# Altium footprint library MSD12A.PcbLib: 1 footprints
Each footprint in its own frame and in the unit in brackets; x right, y up, seen from the top. Pads: shape width x height; smd on the part's side, far side on the other; paste and mask are expansions set on the pad; w line width, h text height; cw(c..) or ccw(c..) is an arc to the next point about the centre after c.
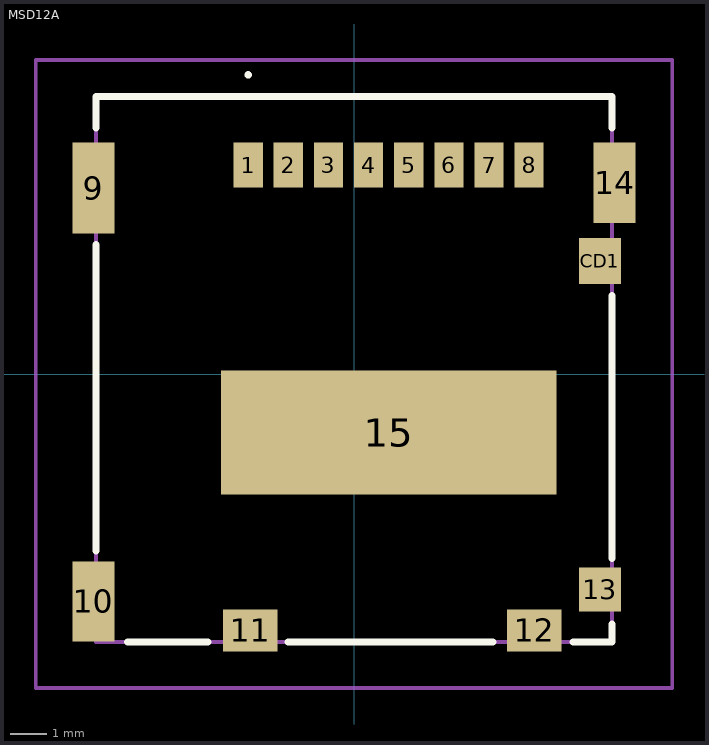
[diagram p0: the footprint, top view; thin cyan lines are the x and y axes]

## MSD12A [mm]
pads (16):
  rect 0.8x1.24 smd: 1(-2.9,5.725) 2(-1.8,5.725) 3(-0.7,5.725) 4(0.4,5.725) 5(1.5,5.725) 6(2.6,5.725) 7(3.7,5.725) 8(4.8,5.725)
  rect 1.15x2.5 smd: 9(-7.145,5.096)
  rect 1.15x2.2 smd: 10(-7.145,-6.234) 14(7.145,5.245)
  rect 1.5x1.15 smd: 11(-2.84,-7.029) 12(4.94,-7.029)
  rect 1.16x1.2 smd: 13(6.74,-5.904)
  rect 9.2x3.4 smd: 15(0.95,-1.605)
  rect 1.16x1.25 smd: CD1(6.74,3.096)
Top Overlay:
  lines w0.1: -2.9,8.148 -2.9,8.148 ; -2.9,8.148 ccw(c-2.9,8.198) -2.9,8.248 ; -2.9,8.148 cw(c-2.9,8.198) -2.9,8.248 ; -2.9,8.248 -2.9,8.248
  lines w0.2: -7.07,-4.852 -7.07,3.548 ; -7.07,6.748 -7.07,7.605 7.07,7.605 7.07,6.748 ; -6.2,-7.345 -4,-7.345 ; -1.8,-7.345 3.8,-7.345 ; 6,-7.345 7.07,-7.345 7.07,-6.852 ; 7.07,-5.053 7.07,2.148
Mechanical 15:
  lines w0.1: -7.07,-7.345 7.07,-7.345 7.07,7.605 -7.07,7.605 -7.07,-7.345
Mechanical 20:
  lines w0.1: -8.72,-8.605 8.72,-8.605 8.72,8.605 -8.72,8.605 -8.72,-8.605